# EAGLE library part DS9638CM (library SnapEDA)
RS-422 Dual High Speed Differential Line Driver
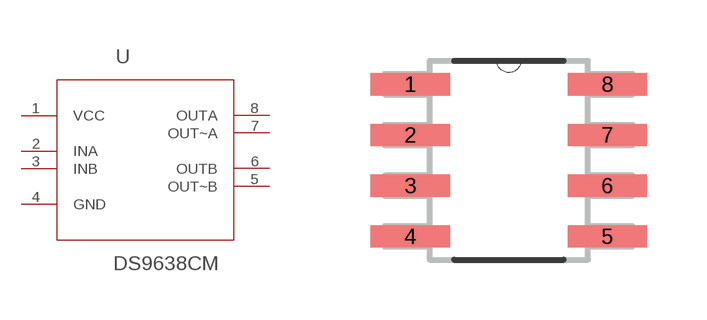
[diagram p0: symbol with the pads of SOIC127P62X175-8N; footprint SOIC127P62X175-8N]

Designator prefix U

## DS9638CM (AVAILABILITY: Good; DESCRIPTION: DIFF LINE DRIVER, RS422, SOIC-8; Device Type: Differential Line Driver; IC Interf; MF: Texas Instruments; MP: DS9638CM/NOPB; PACKAGE: SOIC-8 Texas Instruments; PRICE: 1.08 USD)  [SOIC127P62X175-8N]
1  VCC  pwr
2  INA  in
3  INB  in
4  GND  pas
5  OUT~B  out
6  OUTB  out
7  OUT~A  out
8  OUTA  out

## Footprint SOIC127P62X175-8N (pad centres in mm)
smd 1.981 x 0.559: 1 -2.464,1.905; 2 -2.464,0.635; 3 -2.464,-0.635; 4 -2.464,-1.905; 5 2.464,-1.905; 6 2.464,-0.635; 7 2.464,0.635; 8 2.464,1.905